# EAGLE library part JTAG (library custom-2002)
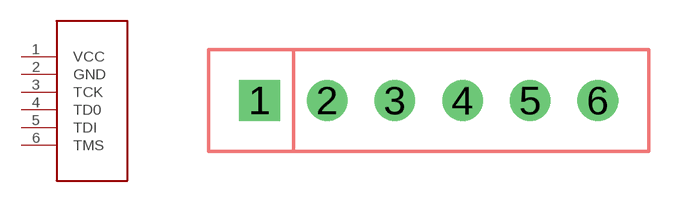
[diagram p15: symbol with the pads of 6PIN; footprint 6PIN]

Designator prefix -

## JTAG  [6PIN]
1  VCC
2  GND
3  TCK
4  TD0
5  TDI
6  TMS

## Footprint 6PIN (pad centres in mm)
drill 1.016 square: 1 0,0
drill 1.016 round: 2 2.54,0; 3 5.08,0; 4 7.62,0; 5 10.16,0; 6 12.7,0